# Altium footprint library Inductor_SMD.PcbLib: 587 footprints (part 10 of 37)
Each footprint in its own frame and in the unit in brackets; x right, y up, seen from the top. Pads: shape width x height; smd on the part's side, far side on the other; paste and mask are expansions set on the pad; w line width, h text height; cw(c..) or ccw(c..) is an arc to the next point about the centre after c.
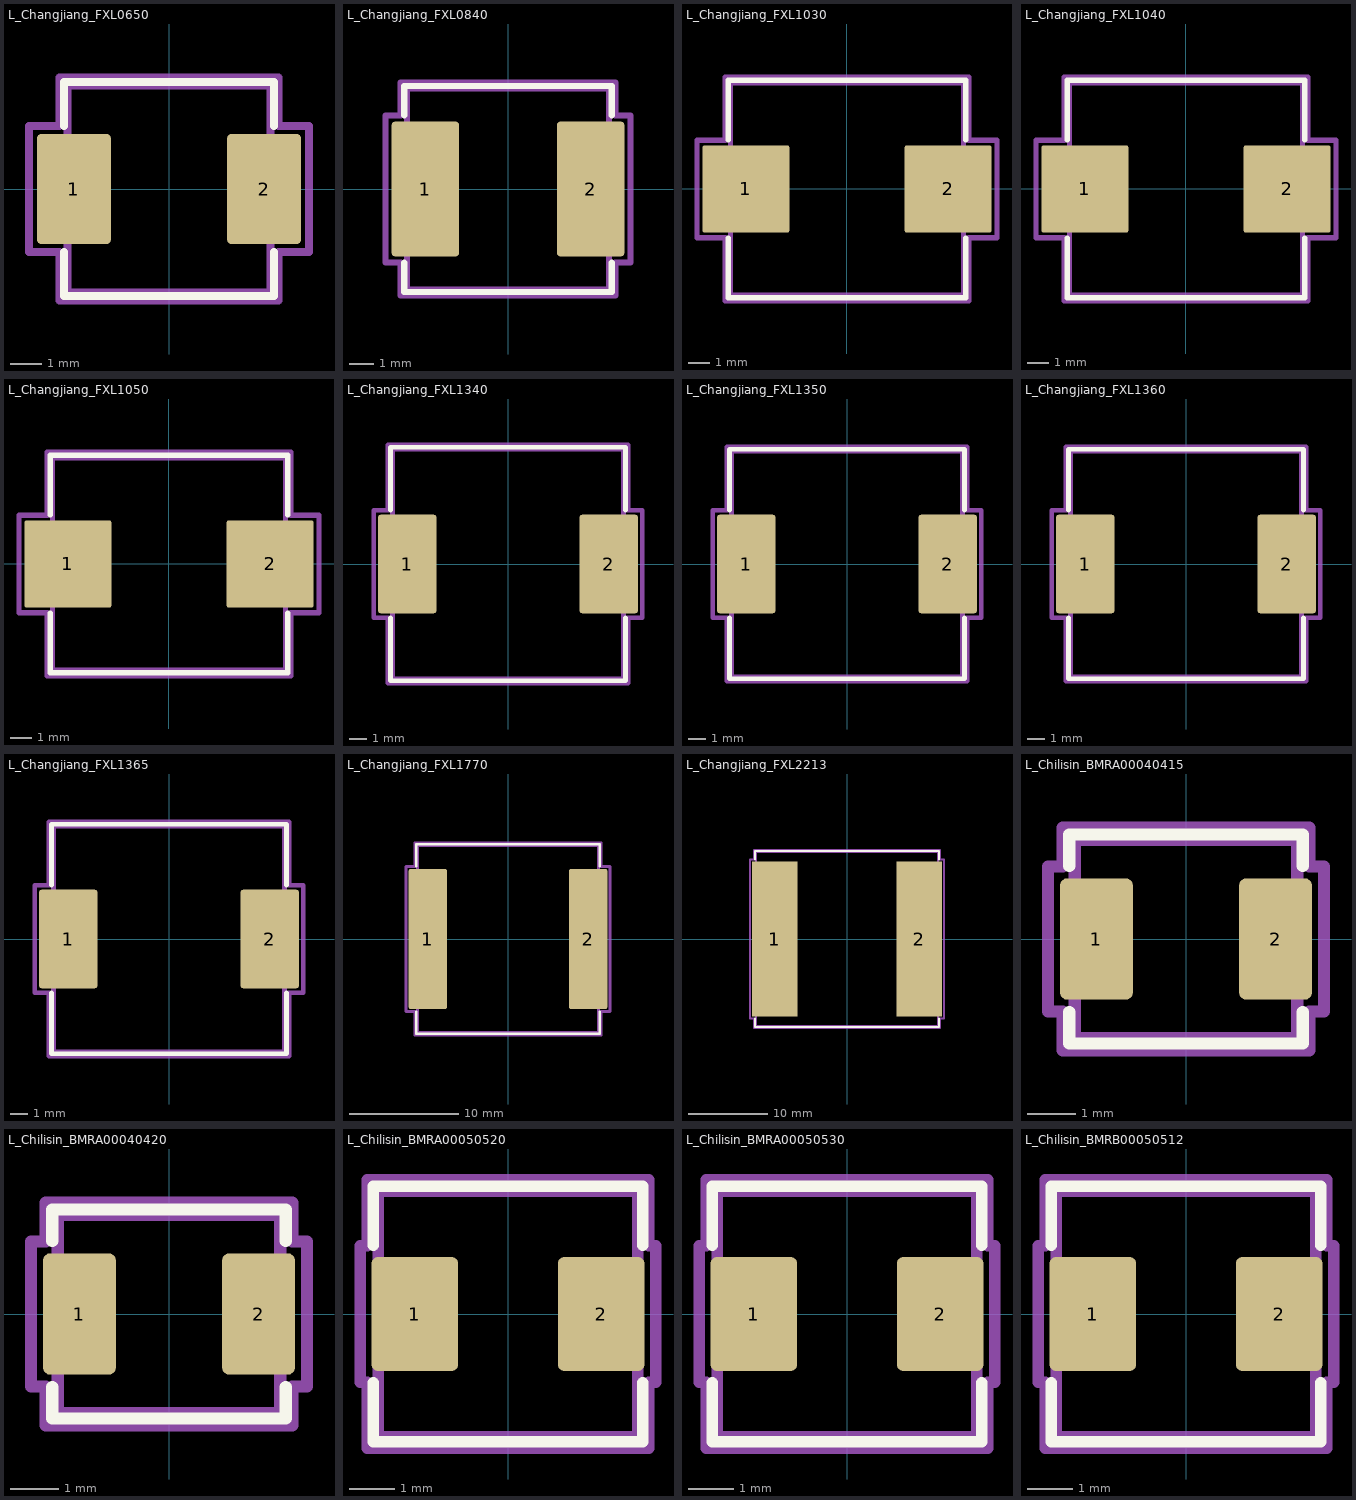
[diagram p9: the footprints below, top view; thin cyan lines are the x and y axes]

## L_Changjiang_FXL0650 [mm] "L_Changjiang_FXL0650"
pads (2):
  rrect11% 2.35x3.5 smd: 1(-3.025,0) 2(3.025,0)
F.SilkS:
  lines w0.254: -3.335,-2.01 -3.335,-3.41 3.335,-3.41 3.335,-2.01 ; -3.335,2.01 -3.335,3.41 3.335,3.41 3.335,2.01
Top Assembly:
  lines w0.254: -3.225,-3.3 3.225,-3.3 3.225,3.3 -3.225,3.3 -3.225,-3.3
  text "'.Designator'" at -4.047,-0.84 h1
Top Courtyard:
  lines w0.254: -4.45,-2 -3.48,-2 -3.48,-3.55 3.48,-3.55 3.48,-2 4.45,-2 4.45,2 3.48,2 3.48,3.55 -3.48,3.55 -3.48,2 -4.45,2 -4.45,-2
Top Designator:
  text ".Designator" at -7.618,-0.508 h1.52

## L_Changjiang_FXL0840 [mm] "L_Changjiang_FXL0840"
pads (2):
  rrect9% 2.75x5.5 smd: 1(-3.375,0) 2(3.375,0)
F.SilkS:
  lines w0.254: -4.235,-3.01 -4.235,-4.21 4.235,-4.21 4.235,-3.01 ; -4.235,3.01 -4.235,4.21 4.235,4.21 4.235,3.01
Top Assembly:
  lines w0.254: -4.125,-4.1 -4.125,4.1 4.125,4.1 4.125,-4.1 -4.125,-4.1
  text "'.Designator'" at -4.047,-0.84 h1
Top Courtyard:
  lines w0.254: -5,-3 -5,3 -4.38,3 -4.38,4.35 4.38,4.35 4.38,3 5,3 5,-3 4.38,-3 4.38,-4.35 -4.38,-4.35 -4.38,-3 -5,-3
Top Designator:
  text ".Designator" at -7.618,-0.508 h1.52

## L_Changjiang_FXL1030 [mm] "L_Changjiang_FXL1030"
pads (2):
  rrect6% 4.1x4.1 smd: 1(-4.75,0) 2(4.75,0)
F.SilkS:
  lines w0.254: -5.585,-2.31 -5.585,-5.11 5.585,-5.11 5.585,-2.31 ; -5.585,2.31 -5.585,5.11 5.585,5.11 5.585,2.31
Top Assembly:
  lines w0.254: -5.475,-5 -5.475,5 5.475,5 5.475,-5 -5.475,-5
  text "'.Designator'" at -4.047,-0.84 h1
Top Courtyard:
  lines w0.254: -7.05,-2.3 -7.05,2.3 -5.73,2.3 -5.73,5.25 5.73,5.25 5.73,2.3 7.05,2.3 7.05,-2.3 5.73,-2.3 5.73,-5.25 -5.73,-5.25 -5.73,-2.3 -7.05,-2.3
Top Designator:
  text ".Designator" at -7.618,-0.508 h1.52

## L_Changjiang_FXL1040 [mm] "L_Changjiang_FXL1040"
pads (2):
  rrect6% 4.1x4.1 smd: 1(-4.75,0) 2(4.75,0)
F.SilkS:
  lines w0.254: -5.585,-2.31 -5.585,-5.11 5.585,-5.11 5.585,-2.31 ; -5.585,2.31 -5.585,5.11 5.585,5.11 5.585,2.31
Top Assembly:
  lines w0.254: -5.475,-5 -5.475,5 5.475,5 5.475,-5 -5.475,-5
  text "'.Designator'" at -4.047,-0.84 h1
Top Courtyard:
  lines w0.254: -7.05,-2.3 -7.05,2.3 -5.73,2.3 -5.73,5.25 5.73,5.25 5.73,2.3 7.05,2.3 7.05,-2.3 5.73,-2.3 5.73,-5.25 -5.73,-5.25 -5.73,-2.3 -7.05,-2.3
Top Designator:
  text ".Designator" at -7.618,-0.508 h1.52

## L_Changjiang_FXL1050 [mm] "L_Changjiang_FXL1050"
pads (2):
  rrect6% 4.1x4.1 smd: 1(-4.75,0) 2(4.75,0)
F.SilkS:
  lines w0.254: -5.585,-2.31 -5.585,-5.11 5.585,-5.11 5.585,-2.31 ; -5.585,2.31 -5.585,5.11 5.585,5.11 5.585,2.31
Top Assembly:
  lines w0.254: -5.475,-5 5.475,-5 5.475,5 -5.475,5 -5.475,-5
  text "'.Designator'" at -4.047,-0.84 h1
Top Courtyard:
  lines w0.254: -7.05,-2.3 -5.73,-2.3 -5.73,-5.25 5.73,-5.25 5.73,-2.3 7.05,-2.3 7.05,2.3 5.73,2.3 5.73,5.25 -5.73,5.25 -5.73,2.3 -7.05,2.3 -7.05,-2.3
Top Designator:
  text ".Designator" at -7.618,-0.508 h1.52

## L_Changjiang_FXL1340 [mm] "L_Changjiang_FXL1340"
pads (2):
  rrect8% 3.25x5.5 smd: 1(-5.625,0) 2(5.625,0)
F.SilkS:
  lines w0.254: -6.56,-3.01 -6.56,-6.51 6.56,-6.51 6.56,-3.01 ; -6.56,3.01 -6.56,6.51 6.56,6.51 6.56,3.01
Top Assembly:
  lines w0.254: -6.45,-6.4 6.45,-6.4 6.45,6.4 -6.45,6.4 -6.45,-6.4
  text "'.Designator'" at -4.047,-0.84 h1
Top Courtyard:
  lines w0.254: -7.5,-3 -6.7,-3 -6.7,-6.65 6.7,-6.65 6.7,-3 7.5,-3 7.5,3 6.7,3 6.7,6.65 -6.7,6.65 -6.7,3 -7.5,3 -7.5,-3
Top Designator:
  text ".Designator" at -7.618,-0.508 h1.52

## L_Changjiang_FXL1350 [mm] "L_Changjiang_FXL1350"
pads (2):
  rrect8% 3.25x5.5 smd: 1(-5.625,0) 2(5.625,0)
F.SilkS:
  lines w0.254: -6.56,-3.01 -6.56,-6.41 6.56,-6.41 6.56,-3.01 ; -6.56,3.01 -6.56,6.41 6.56,6.41 6.56,3.01
Top Assembly:
  lines w0.254: -6.45,-6.3 6.45,-6.3 6.45,6.3 -6.45,6.3 -6.45,-6.3
  text "'.Designator'" at -4.047,-0.84 h1
Top Courtyard:
  lines w0.254: -7.5,-3 -6.7,-3 -6.7,-6.55 6.7,-6.55 6.7,-3 7.5,-3 7.5,3 6.7,3 6.7,6.55 -6.7,6.55 -6.7,3 -7.5,3 -7.5,-3
Top Designator:
  text ".Designator" at -7.618,-0.508 h1.52

## L_Changjiang_FXL1360 [mm] "L_Changjiang_FXL1360"
pads (2):
  rrect8% 3.25x5.5 smd: 1(-5.625,0) 2(5.625,0)
F.SilkS:
  lines w0.254: -6.56,-3.01 -6.56,-6.41 6.56,-6.41 6.56,-3.01 ; -6.56,3.01 -6.56,6.41 6.56,6.41 6.56,3.01
Top Assembly:
  lines w0.254: -6.45,-6.3 -6.45,6.3 6.45,6.3 6.45,-6.3 -6.45,-6.3
  text "'.Designator'" at -4.047,-0.84 h1
Top Courtyard:
  lines w0.254: -7.5,-3 -7.5,3 -6.7,3 -6.7,6.55 6.7,6.55 6.7,3 7.5,3 7.5,-3 6.7,-3 6.7,-6.55 -6.7,-6.55 -6.7,-3 -7.5,-3
Top Designator:
  text ".Designator" at -7.618,-0.508 h1.52

## L_Changjiang_FXL1365 [mm] "L_Changjiang_FXL1365"
pads (2):
  rrect8% 3.25x5.5 smd: 1(-5.625,0) 2(5.625,0)
F.SilkS:
  lines w0.254: -6.56,-3.01 -6.56,-6.41 6.56,-6.41 6.56,-3.01 ; -6.56,3.01 -6.56,6.41 6.56,6.41 6.56,3.01
Top Assembly:
  lines w0.254: -6.45,-6.3 -6.45,6.3 6.45,6.3 6.45,-6.3 -6.45,-6.3
  text "'.Designator'" at -4.047,-0.84 h1
Top Courtyard:
  lines w0.254: -7.5,-3 -7.5,3 -6.7,3 -6.7,6.55 6.7,6.55 6.7,3 7.5,3 7.5,-3 6.7,-3 6.7,-6.55 -6.7,-6.55 -6.7,-3 -7.5,-3
Top Designator:
  text ".Designator" at -7.618,-0.508 h1.52

## L_Changjiang_FXL1770 [mm] "L_Changjiang_FXL1770"
pads (2):
  rrect7% 3.5x12.8 smd: 1(-7.35,0) 2(7.35,0)
F.SilkS:
  lines w0.254: -8.41,-6.66 -8.41,-8.685 8.41,-8.685 8.41,-6.66 ; -8.41,6.66 -8.41,8.685 8.41,8.685 8.41,6.66
Top Assembly:
  lines w0.254: -8.3,-8.575 -8.3,8.575 8.3,8.575 8.3,-8.575 -8.3,-8.575
  text "'.Designator'" at -4.047,-0.84 h1
Top Courtyard:
  lines w0.254: -9.35,-6.65 -9.35,6.65 -8.55,6.65 -8.55,8.83 8.55,8.83 8.55,6.65 9.35,6.65 9.35,-6.65 8.55,-6.65 8.55,-8.83 -8.55,-8.83 -8.55,-6.65 -9.35,-6.65
Top Designator:
  text ".Designator" at -7.618,-0.508 h1.52

## L_Changjiang_FXL2213 [mm] "L_Changjiang_FXL2213"
pads (2):
  rrect4% 5.75x19.6 smd: 1(-9.125,0) 2(9.125,0)
F.SilkS:
  lines w0.254: -11.585,-10.06 -11.585,-11.11 11.585,-11.11 11.585,-10.06 ; -11.585,10.06 -11.585,11.11 11.585,11.11 11.585,10.06
Top Assembly:
  lines w0.254: -11.475,-11 -11.475,11 11.475,11 11.475,-11 -11.475,-11
  text "'.Designator'" at -4.047,-0.84 h1
Top Courtyard:
  lines w0.254: -12.25,-10.05 -12.25,10.05 -11.73,10.05 -11.73,11.25 11.73,11.25 11.73,10.05 12.25,10.05 12.25,-10.05 11.73,-10.05 11.73,-11.25 -11.73,-11.25 -11.73,-10.05 -12.25,-10.05
Top Designator:
  text ".Designator" at -7.618,-0.508 h1.52

## L_Chilisin_BMRA00040415 [mm] "L_Chilisin_BMRA00040415"
pads (2):
  rrect17% 1.5x2.5 smd: 1(-1.85,0) 2(1.85,0)
F.SilkS:
  lines w0.254: -2.41,-1.51 -2.41,-2.16 2.41,-2.16 2.41,-1.51 ; -2.41,1.51 -2.41,2.16 2.41,2.16 2.41,1.51
Top Assembly:
  lines w0.254: -2.3,-2.05 2.3,-2.05 2.3,2.05 -2.3,2.05 -2.3,-2.05
  text "'.Designator'" at -4.047,-0.84 h1
Top Courtyard:
  lines w0.254: -2.85,-1.5 -2.55,-1.5 -2.55,-2.3 2.55,-2.3 2.55,-1.5 2.85,-1.5 2.85,1.5 2.55,1.5 2.55,2.3 -2.55,2.3 -2.55,1.5 -2.85,1.5 -2.85,-1.5
Top Designator:
  text ".Designator" at -7.768,-0.508 h1.52
3D body "L_Chilisin_BMRA00040415.step": height 1.5, standoff 0, extent -2.31,-2.05 2.31,2.05

## L_Chilisin_BMRA00040420 [mm] "L_Chilisin_BMRA00040420"
pads (2):
  rrect17% 1.5x2.5 smd: 1(-1.85,0) 2(1.85,0)
F.SilkS:
  lines w0.254: -2.41,-1.51 -2.41,-2.16 2.41,-2.16 2.41,-1.51 ; -2.41,1.51 -2.41,2.16 2.41,2.16 2.41,1.51
Top Assembly:
  lines w0.254: -2.3,-2.05 2.3,-2.05 2.3,2.05 -2.3,2.05 -2.3,-2.05
  text "'.Designator'" at -4.047,-0.84 h1
Top Courtyard:
  lines w0.254: -2.85,-1.5 -2.55,-1.5 -2.55,-2.3 2.55,-2.3 2.55,-1.5 2.85,-1.5 2.85,1.5 2.55,1.5 2.55,2.3 -2.55,2.3 -2.55,1.5 -2.85,1.5 -2.85,-1.5
Top Designator:
  text ".Designator" at -7.768,-0.508 h1.52
3D body "L_Chilisin_BMRA00040420.step": height 2, standoff 0, extent -2.31,-2.05 2.31,2.05

## L_Chilisin_BMRA00050520 [mm] "L_Chilisin_BMRA00050520"
pads (2):
  rrect13% 1.9x2.5 smd: 1(-2.05,0) 2(2.05,0)
F.SilkS:
  lines w0.254: -2.96,-1.51 -2.96,-2.81 2.96,-2.81 2.96,-1.51 ; -2.96,1.51 -2.96,2.81 2.96,2.81 2.96,1.51
Top Assembly:
  lines w0.254: -2.85,-2.7 -2.85,2.7 2.85,2.7 2.85,-2.7 -2.85,-2.7
  text "'.Designator'" at -4.047,-0.84 h1
Top Courtyard:
  lines w0.254: -3.25,-1.5 -3.25,1.5 -3.1,1.5 -3.1,2.95 3.1,2.95 3.1,1.5 3.25,1.5 3.25,-1.5 3.1,-1.5 3.1,-2.95 -3.1,-2.95 -3.1,-1.5 -3.25,-1.5
Top Designator:
  text ".Designator" at -7.768,-0.508 h1.52
3D body "L_Chilisin_BMRA00050520.step": height 1.8, standoff 0, extent -2.855,-2.7 2.855,2.7

## L_Chilisin_BMRA00050530 [mm] "L_Chilisin_BMRA00050530"
pads (2):
  rrect13% 1.9x2.5 smd: 1(-2.05,0) 2(2.05,0)
F.SilkS:
  lines w0.254: -2.96,-1.51 -2.96,-2.81 2.96,-2.81 2.96,-1.51 ; -2.96,1.51 -2.96,2.81 2.96,2.81 2.96,1.51
Top Assembly:
  lines w0.254: -2.85,-2.7 -2.85,2.7 2.85,2.7 2.85,-2.7 -2.85,-2.7
  text "'.Designator'" at -4.047,-0.84 h1
Top Courtyard:
  lines w0.254: -3.25,-1.5 -3.25,1.5 -3.1,1.5 -3.1,2.95 3.1,2.95 3.1,1.5 3.25,1.5 3.25,-1.5 3.1,-1.5 3.1,-2.95 -3.1,-2.95 -3.1,-1.5 -3.25,-1.5
Top Designator:
  text ".Designator" at -7.768,-0.508 h1.52
3D body "L_Chilisin_BMRA00050530.step": height 3, standoff 0, extent -2.855,-2.7 2.855,2.7

## L_Chilisin_BMRB00050512 [mm] "L_Chilisin_BMRB00050512"
pads (2):
  rrect13% 1.9x2.5 smd: 1(-2.05,0) 2(2.05,0)
F.SilkS:
  lines w0.254: -2.96,-1.51 -2.96,-2.81 2.96,-2.81 2.96,-1.51 ; -2.96,1.51 -2.96,2.81 2.96,2.81 2.96,1.51
Top Assembly:
  lines w0.254: -2.85,-2.7 2.85,-2.7 2.85,2.7 -2.85,2.7 -2.85,-2.7
  text "'.Designator'" at -4.047,-0.84 h1
Top Courtyard:
  lines w0.254: -3.25,-1.5 -3.1,-1.5 -3.1,-2.95 3.1,-2.95 3.1,-1.5 3.25,-1.5 3.25,1.5 3.1,1.5 3.1,2.95 -3.1,2.95 -3.1,1.5 -3.25,1.5 -3.25,-1.5
Top Designator:
  text ".Designator" at -7.768,-0.508 h1.52
3D body "L_Chilisin_BMRB00050512.step": height 1.2, standoff 0, extent -2.86,-2.7 2.86,2.7